# Altium footprint library CAPC2013X113N.PcbLib: 1 footprints
Each footprint in its own frame and in the unit in brackets; x right, y up, seen from the top. Pads: shape width x height; smd on the part's side, far side on the other; paste and mask are expansions set on the pad; w line width, h text height; cw(c..) or ccw(c..) is an arc to the next point about the centre after c.
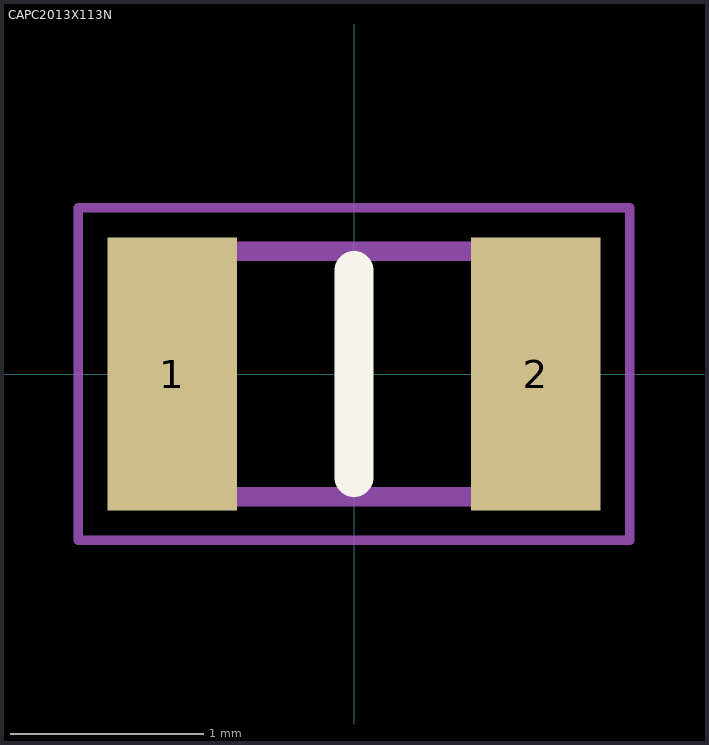
[diagram p0: the footprint, top view; thin cyan lines are the x and y axes]

## CAPC2013X113N [mm]
pads (2):
  rect 0.67x1.41 smd: 1(-0.94,0) 2(0.94,0)
Top Overlay:
  lines w0.2: 0,-0.535 0,0.535
Mechanical 15:
  lines w0.1: -1.005,-0.635 -1.005,0.635 1.005,0.635 1.005,-0.635 -1.005,-0.635
Mechanical 20:
  lines w0.05: -1.425,-0.86 -1.425,0.86 1.425,0.86 1.425,-0.86 -1.425,-0.86